# Altium footprint library SO-8.PcbLib: 2 footprints
Each footprint in its own frame and in the unit in brackets; x right, y up, seen from the top. Pads: shape width x height; smd on the part's side, far side on the other; paste and mask are expansions set on the pad; w line width, h text height; cw(c..) or ccw(c..) is an arc to the next point about the centre after c.
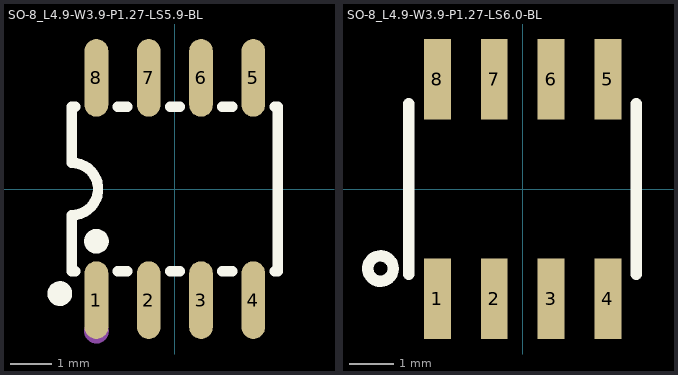
[diagram p0: the footprints below, top view; thin cyan lines are the x and y axes]

## SO-8_L4.9-W3.9-P1.27-LS5.9-BL [mm]
pads (8):
  oval 0.574x1.888 smd paste+0 mask+0.051: 1(-1.905,-2.699) 2(-0.635,-2.699) 3(0.635,-2.699) 4(1.905,-2.699) 5(1.905,2.699) 6(0.635,2.699) 7(-0.635,2.699) 8(-1.905,2.699)
Top Overlay:
  circle w0.3: c-1.905,-1.27 r0.15
  circle w0.3: c-2.794,-2.54 r0.15
  lines w0.254: -2.421,-2 -2.5,-2 -2.5,-0.635 ccw(c-2.5,0) -2.499,0.635 -2.5,2 -2.421,2 ; -1.389,-2 -1.151,-2 ; -1.389,2 -1.151,2 ; -0.119,-2 0.119,-2 ; -0.119,2 0.119,2 ; 1.151,-2 1.389,-2 ; 1.151,2 1.389,2 ; 2.421,-2 2.5,-2 2.5,2 2.421,2
Mechanical 15:
  circle w0.3: c-1.905,-3.45 r0.15

## SO-8_L4.9-W3.9-P1.27-LS6.0-BL [mm]
pads (8):
  rect 0.6x1.8 smd paste+0 mask+0.05: 1(-1.905,-2.45) 2(-0.635,-2.45) 3(0.635,-2.45) 4(1.905,-2.45) 5(1.905,2.45) 6(0.635,2.45) 7(-0.635,2.45) 8(-1.905,2.45)
Top Overlay:
  circle w0.254: c-3.175,-1.778 r0.284
  lines w0.254: -2.54,-1.905 -2.54,1.905 ; 2.54,-1.905 2.54,1.905